# Altium schematic symbol library Tx_board.SchLib: 57 symbols (part 2 of 3)
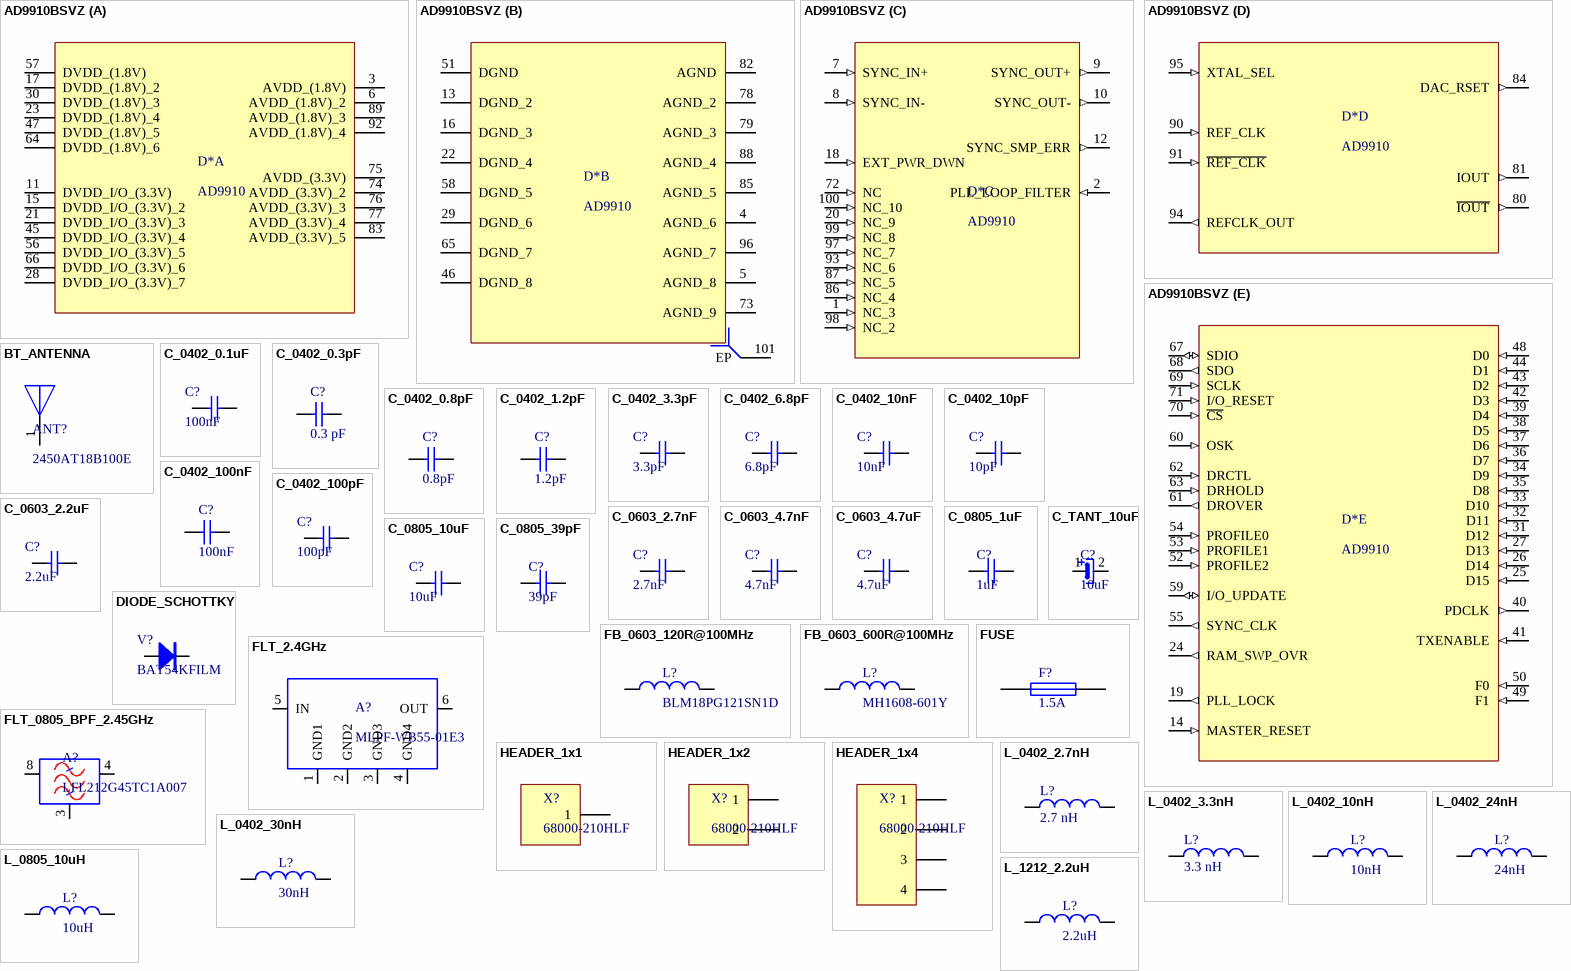
[diagram p2: symbols AD9910BSVZ to L_1212_2.2uH]

## FLT_2.4GHz
designator A?, comment MLPF-WB55-01E3
RF Filter Low Pass 2400MHz to 2500MHz 1.1dB 50Ohm SMD 6Pin T/R; Manufacturer: STMicroelectronics; Supplier 1: Digi-Key; Supplier Part Number 1: 497-19088-1-ND; Manufacturer Part Number: MLPF-WB55-01E3; RoHS: No; Stock 1: 4457; Pricing 1: 1=0.33000, 10=0.31100, 25=0.29680, 50=0.28720, 100=0.27750, 250=0.26316, 500=0.22012, 1000=0.17082 (USD); ComponentLink1URL: http://www.farnell.com/datasheets/2802556.pdf?src-supplier=Farnell; ComponentLink1Description: http://www.farnell.com/datasheets/2802556.pdf?src-supplier=Farnell
footprint CSP_BUMPLESS
pins: 1 GND1 (power), 2 GND2 (power), 3 GND3 (power), 4 GND4 (power), 5 IN, 6 OUT

## FLT_0805_BPF_2.45GHz
designator A?, comment LFL212G45TC1A007
CHIP MULTILAYER LC FILTER; Manufacturer: Murata; Bandwidth: 50MHz; Impedance: 50R; Frequency: 2.45GHz; Insertion Loss: 0.5dB; Max Frequency: 2.5GHz; Shielding: Unshielded; Supplier 1: Mouser; Supplier Part Number 1: 81-LFL212G45TC1A007; Manufacturer Part Number: LFL212G45TC1A007; RoHS: Yes; Category: EMI / RFI Components; Stock 1: 21605; Pricing 1: 1=0.30000, 10=0.16900, 100=0.15200, 250=0.12900, 500=0.12200, 1000=0.11900 (USD); Case/Package: 0805; Number of Pins: 8; Case Code (Imperial): 0805; Case Code (Metric): 2012; Min Operating Temperature: -40°C; Max Operating Temperature: 85°C; Package Quantity: 1; Packaging: Tape and Reel; Termination: SMD/SMT; Length: 2mm; Width: 1.25mm; Radiation Hardening: No; REACH SVHC: No SVHC; Lead Free: Lead Free; ComponentLink1URL: https://datasheet.ciiva.com/3068/k99e-l0270-3068711.pdf?src-supplier=Avnet; ComponentLink1Description: https://datasheet.ciiva.com/3068/k99e-l0270-3068711.pdf?src-supplier=Avnet; ComponentLink2URL: https://datasheet.ciiva.com/1129/516786-1129658.pdf?src-supplier=Farnell; ComponentLink2Description: https://datasheet.ciiva.com/1129/516786-1129658.pdf?src-supplier=Farnell; ComponentLink3URL: https://datasheet.ciiva.com/1127/516786-1127165.pdf?src-supplier=Element14; ComponentLink3Description: https://datasheet.ciiva.com/1127/516786-1127165.pdf?src-supplier=Element14; ComponentLink4URL: https://datasheet.ciiva.com/16632/k99e-l0270-16632893.pdf?src-supplier=Avnet+Europe; ComponentLink4Description: https://datasheet.ciiva.com/16632/k99e-l0270-16632893.pdf?src-supplier=Avnet+Europe; ComponentLink5URL: https://datasheet.ciiva.com/29368/k99e-l0270-29368111.pdf?src-supplier=Digi-Key; ComponentLink5Description: https://datasheet.ciiva.com/29368/k99e-l0270-29368111.pdf?src-supplier=Digi-Key
footprint GE0805C
pins: 1 GND (power) hidden, 2 NC hidden, 3 GND (power), 4 OUT, 5 GND (power) hidden, 6 NC hidden, 7 GND hidden, 8 IN

## FUSE
designator F?, comment 1.5A
PTC RESET FUSE 6V 750MA 1210; Manufacturer: Bourns; Manufacturer Part Number: MF-USMF075-2; Current Rating: 40A; Resistance: 450mR; Time to Trip: 0.1s; Power Dissipation: 600mW; Approvals: UL,CSA,TUV; Supplier 1: Digi-Key; Supplier Part Number 1: MF-USMF075-2CT-ND; RoHS: Yes; Category: PTC Resettable Fuses; Stock 1: 19397; Pricing 1: 1=0.60000, 5=0.58600, 10=0.56800, 50=0.47780, 100=0.39660, 250=0.36056, 500=0.30648, 1000=0.27042 (USD); Mount: Surface Mount; Case/Package: 1210; Case Code (Metric): 3225; Case Code (Imperial): 1210; Terminal Material: Gold; Contact Plating: Gold; Number of Terminals: 2; Min Operating Temperature: -40°C; Max Operating Temperature: 85°C; Package Quantity: 1; Packaging: Tape and Reel; Voltage Rating (DC): 6V; Operating Supply Voltage: 6V; Voltage Rating: 6V; Max Current Rating: 40A; Trip Current: 1.5A; Hold Current: 750mA; Termination: SMD/SMT; Length: 3.43mm; Height: 0.85mm; Width: 2.8mm; Radiation Hardening: No; REACH SVHC: No SVHC; Lead Free: Lead Free; ComponentLink1URL: https://datasheet.ciiva.com/326/mfusmf-326448.pdf?src-supplier=Digi-Key; ComponentLink1Description: https://datasheet.ciiva.com/326/mfusmf-326448.pdf?src-supplier=Digi-Key; ComponentLink2URL: https://datasheet.ciiva.com/326/mfusmf-326449.pdf?src-supplier=Digi-Key; ComponentLink2Description: https://datasheet.ciiva.com/326/mfusmf-326449.pdf?src-supplier=Digi-Key; ComponentLink3URL: https://datasheet.ciiva.com/28411/1719966-28411317.pdf?src-supplier=Element14; ComponentLink3Description: https://datasheet.ciiva.com/28411/1719966-28411317.pdf?src-supplier=Element14; ComponentLink4URL: https://datasheet.ciiva.com/8005/1869950-8005481.pdf?src-supplier=Element14; ComponentLink4Description: https://datasheet.ciiva.com/8005/1869950-8005481.pdf?src-supplier=Element14; ComponentLink5URL: https://datasheet.ciiva.com/3019/mfusmf-3019869.pdf?src-supplier=Avnet; ComponentLink5Description: https://datasheet.ciiva.com/3019/mfusmf-3019869.pdf?src-supplier=Avnet; ComponentLink6URL: https://datasheet.ciiva.com/17414/mfusmf-17414510.pdf?src-supplier=Avnet+Europe; ComponentLink6Description: https://datasheet.ciiva.com/17414/mfusmf-17414510.pdf?src-supplier=Avnet+Europe; ComponentLink7URL: https://datasheet.ciiva.com/14540/70153608-14540247.pdf?src-supplier=Allied+Electronics; ComponentLink7Description: https://datasheet.ciiva.com/14540/70153608-14540247.pdf?src-supplier=Allied+Electronics; ComponentLink8URL: https://datasheet.ciiva.com/31412/1719966-31412936.pdf?src-supplier=Farnell; ComponentLink8Description: https://datasheet.ciiva.com/31412/1719966-31412936.pdf?src-supplier=Farnell; ComponentLink9URL: https://datasheet.ciiva.com/3019/mfusmf-3019690.pdf?src-supplier=Avnet; ComponentLink9Description: https://datasheet.ciiva.com/3019/mfusmf-3019690.pdf?src-supplier=Avnet; ComponentLink10URL: https://datasheet.ciiva.com/16206/mfusmf-16206750.pdf?src-supplier=Onlinecomponents.com; ComponentLink10Description: https://datasheet.ciiva.com/16206/mfusmf-16206750.pdf?src-supplier=Onlinecomponents.com; ComponentLink11URL: https://datasheet.ciiva.com/22712/711771-22712238.pdf?src-supplier=Element14; ComponentLink11Description: https://datasheet.ciiva.com/22712/711771-22712238.pdf?src-supplier=Element14; ComponentLink12URL: https://datasheet.ciiva.com/326/mfusmf-326447.pdf?src-supplier=Digi-Key; ComponentLink12Description: https://datasheet.ciiva.com/326/mfusmf-326447.pdf?src-supplier=Digi-Key
footprint MF-USMF075-2
pins: 1, 2

## HEADER_1x1
designator X?, comment 68000-210HLF
footprint Header M 1x1 TH V
pins: 1

## HEADER_1x2
designator X?, comment 68000-210HLF
footprint Header M 1x2x2.54 TH V - V3
pins: 1 (power), 2 (power)

## HEADER_1x4
designator X?, comment 68000-210HLF
CONN HEADER 10POS .100 STR 15AU; Manufacturer: Amphenol FCI; Number of Positions: 10; Connector Type: Male Pin; Current Rating: 3A; Voltage Rating: 1.5kV; Gender: Male; Insulation Resistance: 5GR; Pitch: 2.54mm; Contact Post Length: 2.41mm; Supplier 1: Digi-Key; Supplier Part Number 1: 609-3258-ND; Manufacturer Part Number: 68000-210HLF; RoHS: Yes; Category: Headers and Wire Housings; Stock 1: 2156; Pricing 1: 1=0.52000, 10=0.48400, 100=0.37120, 500=0.32280, 1000=0.26631, 5000=0.23403, 10000=0.21789 (USD); Mount: Through Hole; Housing Material: Thermoplastic; Color: Black; Contact Plating: Gold,GXT; Contact Material: Bronze; Min Operating Temperature: -65°C; Max Operating Temperature: 125°C; Termination: Solder; Number of Contacts: 10; Package Quantity: 100; Number of Rows: 1; Packaging: Bulk; Contact Gender: Male; Contact Mating Length: 0.23inch; Flammability Rating: UL94 V-0; ComponentLink1URL: https://datasheet.ciiva.com/13679/68000-274237-13679374.pdf?src-supplier=Mouser; ComponentLink1Description: https://datasheet.ciiva.com/13679/68000-274237-13679374.pdf?src-supplier=Mouser; ComponentLink2URL: https://datasheet.ciiva.com/10140/68000-10140105.pdf?src-supplier=Avnet; ComponentLink2Description: https://datasheet.ciiva.com/10140/68000-10140105.pdf?src-supplier=Avnet; ComponentLink3URL: https://datasheet.ciiva.com/728/68000-728946.pdf?src-supplier=Digi-Key; ComponentLink3Description: https://datasheet.ciiva.com/728/68000-728946.pdf?src-supplier=Digi-Key
footprint Header M 1x4x2.54 TH V
pins: 1, 2, 3, 4

## L_0402_2.7nH
designator L?, comment 2.7 nH
MURATA - LQG15HS2N7S02D - INDUCTOR, 2.7NH, 0.8A, 0402, MULTILAYER; Core Material: Air; Q Factor: 8; Self Resonant Frequency: 6GHz; Current Rating: 300mA; Shielding: Unshielded; DC Resistance (DCR): 150mR; Test Frequency: 100MHz; Value: 2.7 nH; Mnf. Part Number: LQG15HS2N7S02D; ComponentLink1Description: Mouser; ComponentLink1URL: https://hr.mouser.com/ProductDetail/Murata-Electronics/LQG15HS2N7S02D?qs=%2Fha2pyFadujt2OiWqNJoxRoxw7kBv0%252ByrT6n939VFw4zHSInabTFCw%3D%3D; Supplier Part Number: 81-LQG15HS2N7S02D; Price x1: 0.09; Price x10: 0.055; Supplier 1: Digi-Key; Supplier Part Number 1: 490-2615-1-ND; Manufacturer: Murata; Manufacturer Part Number: LQG15HS2N7S02D; RoHS: Yes; Category: Fixed Inductors; Stock 1: 25639; Pricing 1: 1=0.10000, 10=0.06100, 100=0.04040, 500=0.03366, 1000=0.02827, 2500=0.02423 (USD); Mount: Surface Mount; Case/Package: 0402; Case Code (Metric): 1005; Case Code (Imperial): 0402; Min Operating Temperature: -55°C; Max Operating Temperature: 125°C; Packaging: Tape and Reel; Package Quantity: 10000; Inductance: 2.7nH; Max DC Current: 300mA; Termination: SMD/SMT; DC Current: 300mA; Military Standard: Not; Length: 1mm; Height: 0.5mm; Width: 0.5mm; Height - Seated (Max): 0.022inch; Depth: 0.55mm; Radiation Hardening: No; Lead Free: Lead Free; ComponentLink2URL: https://datasheet.ciiva.com/11801/0900766b8090d685-11801391.pdf?src-supplier=RSComponents; ComponentLink2Description: https://datasheet.ciiva.com/11801/0900766b8090d685-11801391.pdf?src-supplier=RSComponents; ComponentLink3URL: https://datasheet.ciiva.com/8510/l0075s0083lqg15hs-8510853.pdf?src-supplier=Avnet; ComponentLink3Description: https://datasheet.ciiva.com/8510/l0075s0083lqg15hs-8510853.pdf?src-supplier=Avnet; ComponentLink4URL: https://datasheet.ciiva.com/1038/l0075s0083lqg15hs-1038151.pdf?src-supplier=Digi-Key; ComponentLink4Description: https://datasheet.ciiva.com/1038/l0075s0083lqg15hs-1038151.pdf?src-supplier=Digi-Key; ComponentLink5URL: https://datasheet.ciiva.com/1038/l0075s0083lqg15hs-1038152.pdf?src-supplier=Digi-Key; ComponentLink5Description: https://datasheet.ciiva.com/1038/l0075s0083lqg15hs-1038152.pdf?src-supplier=Digi-Key; ComponentLink6URL: https://datasheet.ciiva.com/1038/l0075s0083lqg15hs-1038153.pdf?src-supplier=Digi-Key; ComponentLink6Description: https://datasheet.ciiva.com/1038/l0075s0083lqg15hs-1038153.pdf?src-supplier=Digi-Key
footprint 0402_RES
pins: 1, 2

## L_0402_3.3nH
designator L?, comment 3.3 nH
FIXED IND 3.3NH 300MA 190 MOHM; Mnf. Part Number: L-07C3N3SV6T; Manufacturer: Johanson; Core Material: Ceramic; Q Factor: 8; DC Resistance (DCR): 190mR; Self Resonant Frequency: 8.5GHz; Test Frequency: 100MHz; Shielding: Unshielded; Value: 3.3 nH; ComponentLink1Description: Mouser; ComponentLink1URL: https://hr.mouser.com/ProductDetail/Johanson-Technology/L-07C3N3SV6T?qs=%2Fha2pyFadugCBtddI3NG%252BaYXbvcOWKobQGd4VDilk%252BKBQerHSSNC3A%3D%3D; Supplier Part Number: 609-L-07C3N3SV6T; Price x1: 0.09; Price x10: 0.033; Supplier 1: Digi-Key; Supplier Part Number 1: 712-1416-1-ND; Manufacturer Part Number: L-07C3N3SV6T; RoHS: Yes; Category: Fixed Inductors; Stock 1: 355427; Pricing 1: 1=0.10000, 10=0.04700, 100=0.03110, 500=0.02588, 1000=0.02174, 2500=0.01863 (USD); Mount: Surface Mount; Case/Package: 0402; Number of Pins: 2; Case Code (Imperial): 0402; Case Code (Metric): 1005; Min Operating Temperature: -40°C; Max Operating Temperature: 100°C; Packaging: Tape and Reel; DC Current: 300mA; Military Standard: Not; Inductance: 3.3nH; Max DC Current: 300mA; Termination: SMD/SMT; Package Quantity: 1; Current Rating: 300mA; Length: 1mm; Height: 0.5mm; Width: 0.02inch; Depth: 0.6mm; Height - Seated (Max): 0.024inch; Radiation Hardening: No; REACH SVHC: No SVHC; ComponentLink2URL: https://datasheet.ciiva.com/1473/1168792-1473902.pdf?src-supplier=Element14; ComponentLink2Description: https://datasheet.ciiva.com/1473/1168792-1473902.pdf?src-supplier=Element14
footprint 0402_RES
pins: 1, 2

## L_0402_10nH
designator L?, comment 10nH
Inductor RF Chip Unshielded Multi-Layer 0.01uH 5% 100MHz 23Q-Factor 0.5A 0.19Ohm DCR 0402 Automotive T/R; Manufacturer: Murata; Manufacturer Part Number: LQG15WZ10NJ02D; Core Material: Air; Current Rating: 500mA; DC Resistance (DCR): 190mR; Self Resonant Frequency: 3.3GHz; Supplier 1: Digi-Key; Supplier Part Number 1: 490-15244-1-ND; RoHS: No; Category: Fixed Inductors; Stock 1: 10714; Pricing 1: 1=0.15000, 10=0.13500, 100=0.08970, 500=0.07476, 1000=0.06279, 2500=0.05382 (USD); Mount: Surface Mount; Case/Package: 0402; Case Code (Imperial): 0402; Case Code (Metric): 1005; Min Operating Temperature: -55°C; Max Operating Temperature: 125°C; Packaging: Cut Tape; Inductance: 10nH; Tolerance: 5%; Shielding: Unshielded; Test Frequency: 100MHz; Ratings: AEC-Q200; ComponentLink1URL: http://search.murata.co.jp/Ceramy/image/img/P02/JELF243B-9117.pdf?src-supplier=Digi-Key; ComponentLink1Description: http://search.murata.co.jp/Ceramy/image/img/P02/JELF243B-9117.pdf?src-supplier=Digi-Key
footprint 0402_RES
pins: 1, 2

## L_0402_24nH
designator L?, comment 24nH
COILCRAFT - 0402CS-24NXGLU - High Frequency Inductor, 24 nH, 0402CS Series, 400 mA, 0402 [1005 Metric], Wirewound, 0.3 ohm; Core Material: Ceramic; Current Rating: 400mA; Tolerance: 2%; Q Factor: 50; DC Resistance (DCR): 300mR; Self Resonant Frequency: 2.7GHz; Test Frequency: 250MHz; Supplier 1: Mouser; Supplier Part Number 1: 994-0402CS-24NXGLU; Manufacturer: Coilcraft; Manufacturer Part Number: 0402CS-24NXGLU; RoHS: Yes; Category: Fixed Inductors; Stock 1: 2009; Pricing 1: 1=1.78000, 10=1.56000, 50=1.26000, 100=1.16000, 200=1.10000, 500=0.69600 (USD); Case/Package: 0402; Weight: 2.3E-05oz; Case Code (Imperial): 0402; Case Code (Metric): 1005; Min Operating Temperature: -40°C; Max Operating Temperature: 125°C; Packaging: Cut Tape; Inductance Tolerance: 2%; Inductance: 24nH; Max DC Current: 400mA; Termination: SMD/SMT; Length: 1.19mm; Height: 0.66mm; Width: 0.64mm; Lead Free: Contains Lead; REACH SVHC: No SVHC; ComponentLink1URL: https://datasheet.ciiva.com/22708/1681871-22708549.pdf?src-supplier=Element14; ComponentLink1Description: https://datasheet.ciiva.com/22708/1681871-22708549.pdf?src-supplier=Element14; ComponentLink2URL: https://datasheet.ciiva.com/22621/1681871-22621870.pdf?src-supplier=Element14; ComponentLink2Description: https://datasheet.ciiva.com/22621/1681871-22621870.pdf?src-supplier=Element14
footprint 0402_RES
pins: 1, 2

## L_0402_30nH
designator L?, comment 30nH
Fixed Inductors 0402CS AEC-Q200 30 nH 2 % 0.4 A; Manufacturer: Coilcraft; Manufacturer Part Number: 0402CS-30NXGLW; Core Material: Ceramic; Tolerance: 2%; Max DC Current: 400mA; DC Resistance (DCR): 300mR; Q Factor: 39; Self Resonant Frequency: 2.35GHz; Test Frequency: 250MHz; Supplier 1: Mouser; Supplier Part Number 1: 994-0402CS-30NXGLW; RoHS: Yes; Category: Fixed Inductors; Stock 1: 2709; Pricing 1: 1=1.82000, 10=1.59000, 50=1.29000, 100=1.18000, 200=1.12000, 500=0.71000 (USD); Case/Package: 0402; Weight: 2.3E-05oz; Min Operating Temperature: -40°C; Max Operating Temperature: 125°C; Packaging: Tape and Reel; Inductance: 30nH; Termination: SMD/SMT; Length: 1.19mm; Height: 0.66mm; Width: 0.64mm; Lead Free: Contains Lead; ComponentLink1URL: http://www.mouser.com/ds/2/597/0402cs-253326.pdf?src-supplier=Mouser; ComponentLink1Description: http://www.mouser.com/ds/2/597/0402cs-253326.pdf?src-supplier=Mouser
footprint 0402_RES
pins: 1, 2

## L_0805_10uH
designator L?, comment 10uH
Inductor Power Chip Shielded Multi-Layer 10uH 20% 1MHz Ferrite 0.3A 0.845Ohm DCR 0805 Automotive T/R; Manufacturer: Murata; Manufacturer Part Number: LQM21DH100M70L; Supplier 1: Digi-Key; Supplier Part Number 1: 490-18463-1-ND; RoHS: No; Stock 1: 2742; Pricing 1: 1=0.28000, 10=0.25300, 100=0.17390, 500=0.14864, 1000=0.11385 (USD)
footprint CAP0805
pins: 1, 2

## L_1212_2.2uH
designator L?, comment 2.2uH
FIXED IND 2.2UH 2.1A 78 MOHM; Manufacturer: Murata; Manufacturer Part Number: LQH3NPN2R2MMEL; Core Material: Ferrite; Tolerance: 20%; Saturation Current: 1.8A; Shielding: Shielded; DC Resistance (DCR): 78mR; Self Resonant Frequency: 60MHz; Test Frequency: 1MHz; Supplier 1: Digi-Key; Supplier Part Number 1: 490-15950-1-ND; RoHS: No; Category: Fixed Inductors; Stock 1: 11885; Pricing 1: 1=0.38000, 10=0.33500, 100=0.23020, 500=0.19674, 1000=0.15070 (USD); Mount: Surface Mount; Case/Package: 1212; Case Code (Imperial): 1212; Case Code (Metric): 3030; Min Operating Temperature: -40°C; Max Operating Temperature: 85°C; Composition: Wirewound; Packaging: Cut Tape; Inductance: 2.2uH; Current Rating: 2.1A; ComponentLink1URL: http://search.murata.co.jp/Ceramy/image/img/P02/JELF243A-0153.pdf?src-supplier=Digi-Key; ComponentLink1Description: http://search.murata.co.jp/Ceramy/image/img/P02/JELF243A-0153.pdf?src-supplier=Digi-Key; ComponentLink2URL: https://search.murata.co.jp/Ceramy/image/img/P02/JELF243A-0153.pdf?src-supplier=Digi-Key; ComponentLink2Description: https://search.murata.co.jp/Ceramy/image/img/P02/JELF243A-0153.pdf?src-supplier=Digi-Key
footprint INDP2929X15N (Precision Wire Wound Inductor, 2-Leads, Body 2.90x2.90mm, IPC Medium Density)
pins: 1, 2

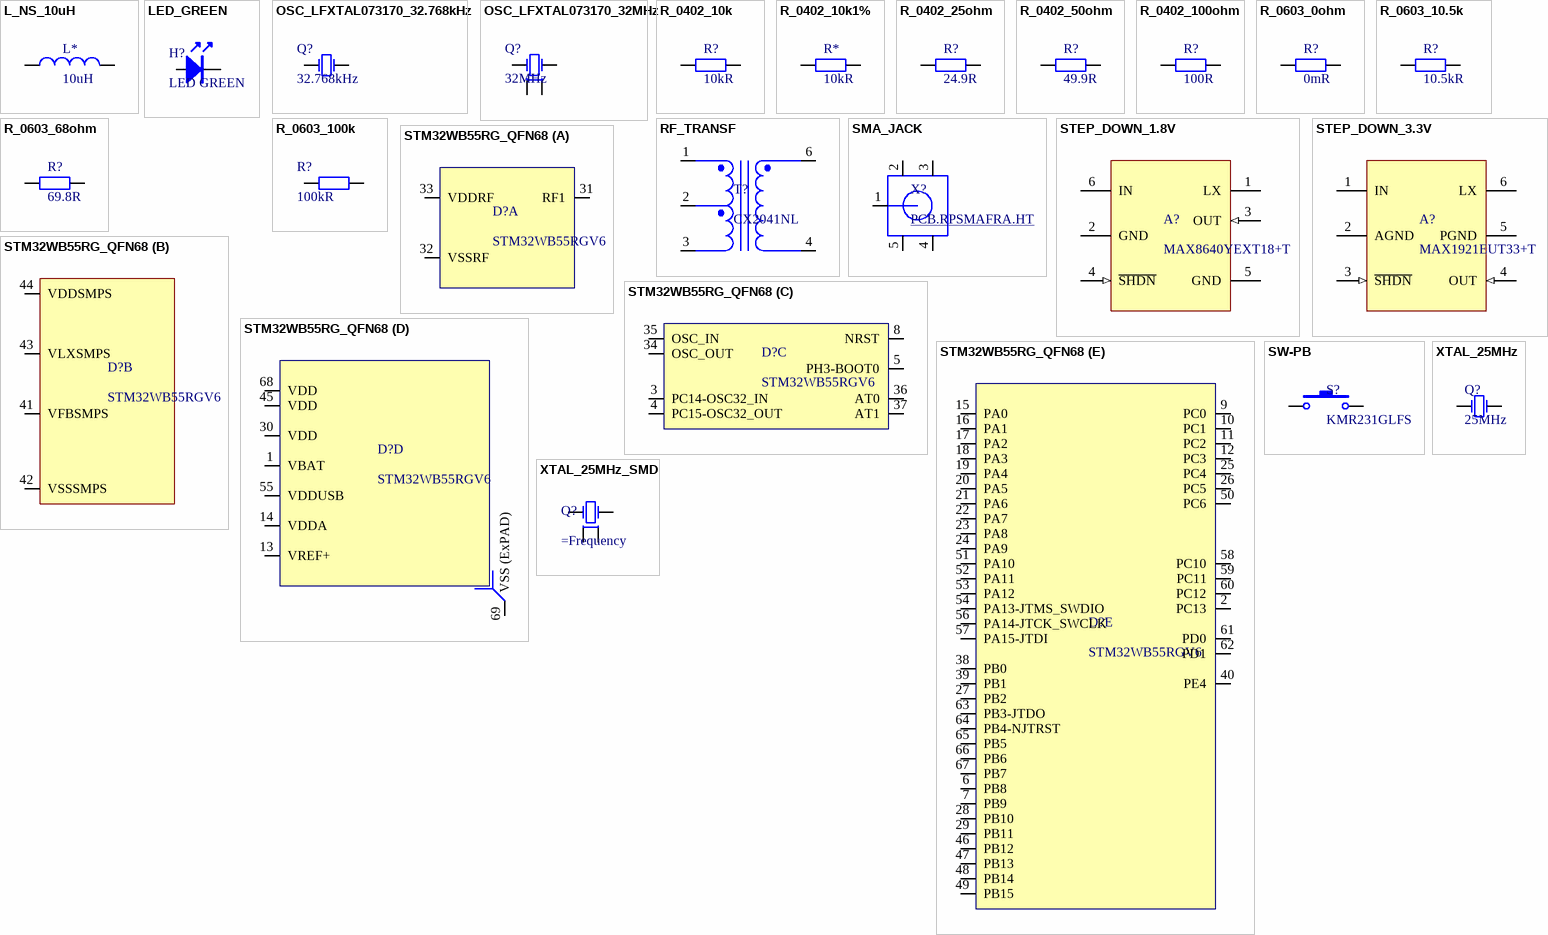
[diagram p1: symbols L_NS_10uH to XTAL_25MHz_SMD]

## L_NS_10uH
designator L*, comment 10uH
Inductor Power Shielded Drum Core 10uH 30% 100KHz Ferrite 550mA 210mOhm DCR 1515 T/R; Manufacturer: Sumida; Manufacturer Part Number: CDRH3D16NP-100NC; DC Resistance (DCR): 210mR; Supplier 1: Digi-Key; Supplier Part Number 1: 308-2298-1-ND; RoHS: Yes; Category: Fixed Inductors; Stock 1: 2000; Pricing 1: 1=1.29000, 10=1.19600, 100=0.86480, 500=0.66240 (USD); Mount: Surface Mount; Case/Package: Nonstandard; Core Material: Ferrite; Min Operating Temperature: -40°C; Max Operating Temperature: 100°C; Inductance: 10uH; Max DC Current: 550mA; Termination: SMD/SMT; Test Frequency: 100kHz; DC Current: 550mA; Military Standard: Not; Packaging: Tape and Reel; Tolerance: 30%; Shielding: Shielded; Package Quantity: 1000; Current Rating: 550mA; Length: 4mm; Height: 1.8mm; Height - Seated (Max): 0.071inch; Depth: 4mm; Width: 4mm; Radiation Hardening: No; Lead Free: Lead Free; ComponentLink1URL: https://datasheet.ciiva.com/1009/lf2020-1009625.pdf?src-supplier=Avnet; ComponentLink1Description: https://datasheet.ciiva.com/1009/lf2020-1009625.pdf?src-supplier=Avnet; ComponentLink2URL: https://datasheet.ciiva.com/18168/getdatasheetpartid-357365-18168789.pdf?src-supplier=Verical; ComponentLink2Description: https://datasheet.ciiva.com/18168/getdatasheetpartid-357365-18168789.pdf?src-supplier=Verical; ComponentLink3URL: https://datasheet.ciiva.com/26793/cdrh3d16np-100nc-26793474.pdf?src-supplier=IIIC; ComponentLink3Description: https://datasheet.ciiva.com/26793/cdrh3d16np-100nc-26793474.pdf?src-supplier=IIIC; ComponentLink4URL: https://datasheet.ciiva.com/29696/cdrh3d16-29696264.pdf?src-supplier=Digi-Key; ComponentLink4Description: https://datasheet.ciiva.com/29696/cdrh3d16-29696264.pdf?src-supplier=Digi-Key; ComponentLink5URL: https://datasheet.ciiva.com/29696/cdrh3d16-29696265.pdf?src-supplier=Digi-Key; ComponentLink5Description: https://datasheet.ciiva.com/29696/cdrh3d16-29696265.pdf?src-supplier=Digi-Key; ComponentLink6URL: https://datasheet.ciiva.com/29696/cdrh3d16-29696266.pdf?src-supplier=Digi-Key; ComponentLink6Description: https://datasheet.ciiva.com/29696/cdrh3d16-29696266.pdf?src-supplier=Digi-Key
footprint IND_10uH (CDRH3D16)
pins: 1, 2

## LED_GREEN
designator H?, comment LED GREEN
WURTH ELEKTRONIK - 150060VS75000 - LED, Green, SMD, 0603, 30 mA, 2 V, 570 nm; Manufacturer: Wurth Electronics; Luminous Intensity: 40mcd; Viewing Angle: 140°; Forward Voltage: 2V; Wavelength: 570nm; Lens Style: Clear,Rectangular; Forward Current: 30mA; Test Current: 20mA; Supplier 1: Digi-Key; Supplier Part Number 1: 732-4980-6-ND; Manufacturer Part Number: 150060VS75000; RoHS: Yes; Category: LEDs; Stock 1: 62969; Pricing 1: 1=0.14000, 50=0.13300, 100=0.11400, 500=0.09900 (USD); Mount: Surface Mount; Case/Package: 0603; Number of Pins: 2; Color: Green; Case Code (Metric): 1608; Case Code (Imperial): 0603; Min Operating Temperature: -40°C; Max Operating Temperature: 85°C; Package Quantity: 1; Packaging: Tape and Reel; Dominant Wavelength: 570nm; Length: 1.6mm; Height: 0.7mm; Width: 0.8mm; REACH SVHC: Unknown; ComponentLink1URL: https://datasheet.ciiva.com/29562/150060vs75000-29562919.pdf?src-supplier=Digi-Key; ComponentLink1Description: https://datasheet.ciiva.com/29562/150060vs75000-29562919.pdf?src-supplier=Digi-Key
footprint 0603_LED_GREEN
pins: A, K

## OSC_LFXTAL073170_32.768kHz
designator Q?, comment 32.768kHz
NDK 32.76kHz Crystal Unit ±20ppm SMD 2-Pin 2.05 x 1.2 x 0.55mm; Manufacturer Part Number: NX2012SA-32.768K-STD-MUB-1; Load Capacitance: 12.5pF; ESR (Equivalent Series Resistance): 80kR; Supplier 1: Digi-Key; Supplier Part Number 1: 644-1219-1-ND; Manufacturer: NDK; RoHS: Yes; Category: Crystals; Stock 1: 43560; Pricing 1: 1=0.91000, 10=0.80500, 50=0.75200, 100=0.66460, 500=0.62964, 1000=0.52470 (USD); Mount: Surface Mount; Case/Package: SMD/SMT; Min Operating Temperature: -40°C; Max Operating Temperature: 85°C; Packaging: Tape and Reel; Frequency: 32.768kHz; Frequency Tolerance: 20ppm; Length: 0.081inch; Height: 0.024inch; Width: 0.047inch; ComponentLink1URL: http://www.ndk.com/images/products/catalog/c_NX2012SA-STD-MUB-1_e.pdf?src-supplier=Digi-Key; ComponentLink1Description: http://www.ndk.com/images/products/catalog/c_NX2012SA-STD-MUB-1_e.pdf?src-supplier=Digi-Key
footprint NX2012_2P
pins: 1 OSC1, 2 OSC2

## OSC_LFXTAL073170_32MHz
designator Q?, comment 32MHz
Crystal 32.0MHZ 10PF SMD Esr 60; Manufacturer: IQD Frequency Products; Manufacturer Part Number: LFXTAL073170REEL; Supplier 1: Digi-Key; Stock 1: 1202; Pricing 1: 1=0.69000, 10=0.60700, 50=0.56760, 100=0.50160, 500=0.47520 (USD); Supplier Part Number 1: 1923-1603-1-ND
footprint NX2016_4P
pins: 1 OSC1, 2, 3 OSC2, 4

## R_0402_10k
designator R?, comment 10kR
RES SMD 10K OHM 1% 1/10W 0402; Manufacturer: Panasonic; Manufacturer Part Number: ERJ-2RKF1002X; Power Rating: 100mW; Voltage Rating: 50V; Temperature Coefficient: 100ppm/°C; Supplier 1: Digi-Key; Supplier Part Number 1: P10.0KLCT-ND; RoHS: Yes; Category: Chip SMD Resistors; Stock 1: 768578; Pricing 1: 1=0.10000, 10=0.04100, 100=0.01680, 1000=0.00753, 2500=0.00653, 5000=0.00540 (USD); Mount: Surface Mount; Case/Package: 0402; Number of Pins: 2; Case Code (Metric): 1005; Case Code (Imperial): 0402; Contact Plating: Tin; Min Operating Temperature: -55°C; Max Operating Temperature: 155°C; Resistance: 10kR; Tolerance: 1%; Packaging: Tape and Reel; Package Quantity: 1; Composition: Thick Film; Number of Terminations: 2; Termination: SMD/SMT; Military Standard: Not; Max Power Dissipation: 100mW; Voltage Rating (DC): 50V; Features: Automotive AEC-Q200; Length: 1mm; Height: 0.35mm; Width: 0.02inch; Depth: 0.5mm; Radiation Hardening: No; REACH SVHC: No SVHC; Lead Free: Lead Free; ComponentLink1URL: https://datasheet.ciiva.com/11821/0900766b80f80784-11821171.pdf?src-supplier=RSComponents; ComponentLink1Description: https://datasheet.ciiva.com/11821/0900766b80f80784-11821171.pdf?src-supplier=RSComponents; ComponentLink2URL: https://datasheet.ciiva.com/16199/aoa0000ce2-16199478.pdf?src-supplier=Future+Electronics; ComponentLink2Description: https://datasheet.ciiva.com/16199/aoa0000ce2-16199478.pdf?src-supplier=Future+Electronics; ComponentLink3URL: https://datasheet.ciiva.com/17212/aoa0000ce2-17212102.pdf?src-supplier=Avnet+Europe; ComponentLink3Description: https://datasheet.ciiva.com/17212/aoa0000ce2-17212102.pdf?src-supplier=Avnet+Europe; ComponentLink4URL: https://datasheet.ciiva.com/24023/aoa0000ce2-24023017.pdf?src-supplier=Mouser; ComponentLink4Description: https://datasheet.ciiva.com/24023/aoa0000ce2-24023017.pdf?src-supplier=Mouser; ComponentLink5URL: https://datasheet.ciiva.com/28514/1678782-28514185.pdf?src-supplier=Element14; ComponentLink5Description: https://datasheet.ciiva.com/28514/1678782-28514185.pdf?src-supplier=Element14; ComponentLink6URL: https://datasheet.ciiva.com/43467/1678782-43467402.pdf?src-supplier=Farnell; ComponentLink6Description: https://datasheet.ciiva.com/43467/1678782-43467402.pdf?src-supplier=Farnell; ComponentLink7URL: https://datasheet.ciiva.com/27055/1987020-27055643.pdf?src-supplier=Jameco; ComponentLink7Description: https://datasheet.ciiva.com/27055/1987020-27055643.pdf?src-supplier=Jameco; ComponentLink8URL: https://datasheet.ciiva.com/48531/aoa0000ce2-48531069.pdf?src-supplier=Avnet; ComponentLink8Description: https://datasheet.ciiva.com/48531/aoa0000ce2-48531069.pdf?src-supplier=Avnet
footprint 0402_RES
pins: 1, 2

## R_0402_10k1%
designator R*, comment 10kR
Res Thick Film 0402 10K Ohm 1% 1/16W ±100ppm/°C Molded SMD Paper T/R; Manufacturer: Vishay; Manufacturer Part Number: CRCW0402-10K0FKED; Power Rating: 63mW; Voltage Rating: 50V; Supplier 1: Digi-Key; Supplier Part Number 1: 541-10.0KLTR-ND; RoHS: Yes; Category: Chip SMD Resistors; Stock 1: 520976; Pricing 1: 10000=0.003710 (USD); Mount: Surface Mount; Case/Package: 0402; Number of Pins: 2; Weight: 2.3E-05oz; Contact Plating: Tin; Case Code (Metric): 1005; Case Code (Imperial): 0402; Min Operating Temperature: -55°C; Max Operating Temperature: 155°C; Tolerance: 1%; Resistance: 10kR; Composition: Thick Film; Temperature Coefficient: 100ppm/°C; Termination: SMD/SMT; Package Quantity: 10; Packaging: Tape and Reel; Number of Terminations: 2; Military Standard: Not; Max Power Dissipation: 63mW; Voltage Rating (DC): 50V; Features: Automotive AEC-Q200; Length: 1mm; Height: 0.35mm; Width: 0.02inch; Depth: 0.5mm; Radiation Hardening: No; Lead Free: Lead Free; REACH SVHC: Unknown; ComponentLink1URL: https://datasheet.ciiva.com/11809/0900766b80d98824-11809984.pdf?src-supplier=RSComponents; ComponentLink1Description: https://datasheet.ciiva.com/11809/0900766b80d98824-11809984.pdf?src-supplier=RSComponents; ComponentLink2URL: https://datasheet.ciiva.com/2463/dcrcwe3-2463025.pdf?src-supplier=Digi-Key; ComponentLink2Description: https://datasheet.ciiva.com/2463/dcrcwe3-2463025.pdf?src-supplier=Digi-Key; ComponentLink3URL: https://datasheet.ciiva.com/2463/dcrcwe3-2463026.pdf?src-supplier=Digi-Key; ComponentLink3Description: https://datasheet.ciiva.com/2463/dcrcwe3-2463026.pdf?src-supplier=Digi-Key; ComponentLink4URL: https://datasheet.ciiva.com/2463/dcrcwe3-2463027.pdf?src-supplier=Digi-Key; ComponentLink4Description: https://datasheet.ciiva.com/2463/dcrcwe3-2463027.pdf?src-supplier=Digi-Key; ComponentLink5URL: https://datasheet.ciiva.com/46385/1697337-46385560.pdf?src-supplier=Element14; ComponentLink5Description: https://datasheet.ciiva.com/46385/1697337-46385560.pdf?src-supplier=Element14; ComponentLink6URL: https://datasheet.ciiva.com/3255/dcrcwe3-3255961.pdf?src-supplier=Avnet; ComponentLink6Description: https://datasheet.ciiva.com/3255/dcrcwe3-3255961.pdf?src-supplier=Avnet; ComponentLink7URL: https://datasheet.ciiva.com/3255/dcrcwe3-3255962.pdf?src-supplier=Avnet; ComponentLink7Description: https://datasheet.ciiva.com/3255/dcrcwe3-3255962.pdf?src-supplier=Avnet; ComponentLink8URL: https://datasheet.ciiva.com/5547/dcrcwe3-109170-5547786.pdf?src-supplier=Mouser; ComponentLink8Description: https://datasheet.ciiva.com/5547/dcrcwe3-109170-5547786.pdf?src-supplier=Mouser; ComponentLink9URL: https://datasheet.ciiva.com/26316/fld-crcw-e3-data-en-26316618.pdf?src-supplier=Distrelec; ComponentLink9Description: https://datasheet.ciiva.com/26316/fld-crcw-e3-data-en-26316618.pdf?src-supplier=Distrelec; ComponentLink10URL: https://datasheet.ciiva.com/16208/dcrcwe3-16208525.pdf?src-supplier=Future+Electronics; ComponentLink10Description: https://datasheet.ciiva.com/16208/dcrcwe3-16208525.pdf?src-supplier=Future+Electronics; ComponentLink11URL: https://datasheet.ciiva.com/36856/1720486-36856909.pdf?src-supplier=Element14; ComponentLink11Description: https://datasheet.ciiva.com/36856/1720486-36856909.pdf?src-supplier=Element14
footprint 0402_RES
pins: 1, 2

## R_0402_25ohm
designator R?, comment 24.9R
Res Thick Film 0402 24.9 Ohm 1% 1/10W 100ppm/C Molded SMD SMD Punched Carrier T/R; Manufacturer: Panasonic; Manufacturer Part Number: ERJ-2RKF24R9X; Voltage Rating: 50V; Power Rating: 100mW; Temperature Coefficient: 100ppm/°C; Supplier 1: Digi-Key; Supplier Part Number 1: P24.9LCT-ND; RoHS: Yes; Category: Chip SMD Resistors; Stock 1: 673851; Pricing 1: 1=0.10000, 10=0.03700, 100=0.01510, 1000=0.00678, 2500=0.00589, 5000=0.00486 (USD); Mount: Surface Mount; Case/Package: 0402; Case Code (Imperial): 0402; Case Code (Metric): 1005; Contact Plating: Tin; Min Operating Temperature: -55°C; Max Operating Temperature: 155°C; Tolerance: 1%; Resistance: 24.9R; Packaging: Tape and Reel; Package Quantity: 1; Termination: SMD/SMT; Composition: Thick Film; Number of Terminations: 2; Military Standard: Not; Max Power Dissipation: 100mW; Voltage Rating (DC): 50V; Working Voltage: 50V; Features: Automotive AEC-Q200; Length: 1mm; Height: 0.35mm; Width: 0.5mm; Depth: 0.5mm; REACH SVHC: No SVHC; Lead Free: Lead Free; ComponentLink1URL: https://datasheet.ciiva.com/30153/aoa0000ce2-30153413.pdf?src-supplier=Onlinecomponents.com; ComponentLink1Description: https://datasheet.ciiva.com/30153/aoa0000ce2-30153413.pdf?src-supplier=Onlinecomponents.com; ComponentLink2URL: https://datasheet.ciiva.com/24023/aoa0000ce2-24023254.pdf?src-supplier=Mouser; ComponentLink2Description: https://datasheet.ciiva.com/24023/aoa0000ce2-24023254.pdf?src-supplier=Mouser; ComponentLink3URL: https://datasheet.ciiva.com/46388/426256-46388760.pdf?src-supplier=Element14; ComponentLink3Description: https://datasheet.ciiva.com/46388/426256-46388760.pdf?src-supplier=Element14; ComponentLink4URL: https://datasheet.ciiva.com/16779/70260748-16779610.pdf?src-supplier=Allied+Electronics; ComponentLink4Description: https://datasheet.ciiva.com/16779/70260748-16779610.pdf?src-supplier=Allied+Electronics; ComponentLink5URL: https://datasheet.ciiva.com/16765/70260748-16765963.pdf?src-supplier=Allied+Electronics; ComponentLink5Description: https://datasheet.ciiva.com/16765/70260748-16765963.pdf?src-supplier=Allied+Electronics; ComponentLink6URL: https://datasheet.ciiva.com/43460/426256-43460270.pdf?src-supplier=Farnell; ComponentLink6Description: https://datasheet.ciiva.com/43460/426256-43460270.pdf?src-supplier=Farnell; ComponentLink7URL: https://datasheet.ciiva.com/9191/aoa0000ce2-9191455.pdf?src-supplier=Avnet; ComponentLink7Description: https://datasheet.ciiva.com/9191/aoa0000ce2-9191455.pdf?src-supplier=Avnet
pins: 1, 2

## R_0402_50ohm
designator R?, comment 49.9R
Res Thick Film 0402 49.9 Ohm 1% 1/10W ±100ppm/°C Molded SMD Punched Carrier T/R; Manufacturer: Panasonic; Manufacturer Part Number: ERJ2RKF49R9X; Power Rating: 100mW; Voltage Rating: 50V; Supplier 1: Digi-Key; Supplier Part Number 1: P49.9LCT-ND; RoHS: Yes; Category: Chip SMD Resistors; Stock 1: 5079010; Pricing 1: 1=0.10000, 10=0.04900, 100=0.02010, 1000=0.00901, 2500=0.00782, 5000=0.00646 (USD); Mount: Surface Mount; Case/Package: 0402; Case Code (Metric): 1005; Case Code (Imperial): 0402; Contact Plating: Tin; Min Operating Temperature: -55°C; Max Operating Temperature: 155°C; Resistance: 49.9R; Tolerance: 1%; Packaging: Tape and Reel; Package Quantity: 1; Composition: Thick Film; Number of Terminations: 2; Termination: SMD/SMT; Temperature Coefficient: 100ppm/°C; Military Standard: Not; Max Power Dissipation: 100mW; Voltage Rating (DC): 50V; Working Voltage: 50V; Features: Automotive AEC-Q200; Length: 1mm; Height: 0.35mm; Width: 0.02inch; Depth: 0.5mm; Radiation Hardening: No; REACH SVHC: Unknown; Lead Free: Lead Free; ComponentLink1URL: https://datasheet.ciiva.com/34303/2007329-34303761.pdf?src-supplier=Jameco; ComponentLink1Description: https://datasheet.ciiva.com/34303/2007329-34303761.pdf?src-supplier=Jameco; ComponentLink2URL: https://datasheet.ciiva.com/16514/aoa0000ce2-16514389.pdf?src-supplier=Avnet+Asia; ComponentLink2Description: https://datasheet.ciiva.com/16514/aoa0000ce2-16514389.pdf?src-supplier=Avnet+Asia; ComponentLink3URL: https://datasheet.ciiva.com/30073/aoa0000ce2-30073413.pdf?src-supplier=Onlinecomponents.com; ComponentLink3Description: https://datasheet.ciiva.com/30073/aoa0000ce2-30073413.pdf?src-supplier=Onlinecomponents.com; ComponentLink4URL: https://datasheet.ciiva.com/6159/1678782-6159607.pdf?src-supplier=Farnell; ComponentLink4Description: https://datasheet.ciiva.com/6159/1678782-6159607.pdf?src-supplier=Farnell; ComponentLink5URL: https://datasheet.ciiva.com/22749/1678782-22749612.pdf?src-supplier=Element14; ComponentLink5Description: https://datasheet.ciiva.com/22749/1678782-22749612.pdf?src-supplier=Element14; ComponentLink6URL: https://datasheet.ciiva.com/24071/aoa0000ce2-24071517.pdf?src-supplier=Mouser; ComponentLink6Description: https://datasheet.ciiva.com/24071/aoa0000ce2-24071517.pdf?src-supplier=Mouser
footprint 0402_RES
pins: 1, 2

## R_0402_100ohm
designator R?, comment 100R
RES, THICK FILM, 100R, 100mW, 1%, 0402; Manufacturer: Panasonic; Manufacturer Part Number: ERJ-2RKF1000X; Temperature Coefficient: 100ppm/°C; Voltage Rating: 50V; Supplier 1: Mouser; Supplier Part Number 1: 667-ERJ-2RKF1000X; RoHS: Yes; Category: Chip SMD Resistors; Stock 1: 1219318; Pricing 1: 1=0.10000, 10=0.03700, 100=0.01400, 1000=0.00700, 2500=0.00500, 10000=0.00400 (USD); Mount: Surface Mount; Case/Package: 0402; Number of Pins: 2; Contact Plating: Tin; Case Code (Imperial): 0402; Case Code (Metric): 1005; Min Operating Temperature: -55°C; Max Operating Temperature: 155°C; Resistance: 100R; Tolerance: 1%; Composition: Thick Film; Packaging: Tape and Reel; Power Rating: 100mW; Package Quantity: 1; Termination: SMD/SMT; Number of Terminations: 2; Military Standard: Not; Max Power Dissipation: 100mW; Voltage Rating (DC): 50V; Features: Automotive AEC-Q200; Length: 1mm; Height: 0.35mm; Width: 0.5mm; Depth: 0.5mm; Radiation Hardening: No; REACH SVHC: No SVHC; Lead Free: Lead Free; ComponentLink1URL: https://datasheet.ciiva.com/27056/2007311-27056035.pdf?src-supplier=Jameco; ComponentLink1Description: https://datasheet.ciiva.com/27056/2007311-27056035.pdf?src-supplier=Jameco; ComponentLink2URL: https://datasheet.ciiva.com/11821/0900766b80f80784-11821173.pdf?src-supplier=RSComponents; ComponentLink2Description: https://datasheet.ciiva.com/11821/0900766b80f80784-11821173.pdf?src-supplier=RSComponents; ComponentLink3URL: https://datasheet.ciiva.com/46372/1678782-46372741.pdf?src-supplier=Element14; ComponentLink3Description: https://datasheet.ciiva.com/46372/1678782-46372741.pdf?src-supplier=Element14; ComponentLink4URL: https://datasheet.ciiva.com/16199/aoa0000ce2-16199575.pdf?src-supplier=Future+Electronics; ComponentLink4Description: https://datasheet.ciiva.com/16199/aoa0000ce2-16199575.pdf?src-supplier=Future+Electronics; ComponentLink5URL: https://datasheet.ciiva.com/43467/1678782-43467223.pdf?src-supplier=Farnell; ComponentLink5Description: https://datasheet.ciiva.com/43467/1678782-43467223.pdf?src-supplier=Farnell; ComponentLink6URL: https://datasheet.ciiva.com/30260/aoa0000ce2-30260809.pdf?src-supplier=Onlinecomponents.com; ComponentLink6Description: https://datasheet.ciiva.com/30260/aoa0000ce2-30260809.pdf?src-supplier=Onlinecomponents.com; ComponentLink7URL: https://datasheet.ciiva.com/9186/aoa0000ce2-9186683.pdf?src-supplier=Avnet; ComponentLink7Description: https://datasheet.ciiva.com/9186/aoa0000ce2-9186683.pdf?src-supplier=Avnet; ComponentLink8URL: https://datasheet.ciiva.com/16776/70260748-16776427.pdf?src-supplier=Allied+Electronics; ComponentLink8Description: https://datasheet.ciiva.com/16776/70260748-16776427.pdf?src-supplier=Allied+Electronics; ComponentLink9URL: https://datasheet.ciiva.com/48531/aoa0000ce2-48531067.pdf?src-supplier=Avnet; ComponentLink9Description: https://datasheet.ciiva.com/48531/aoa0000ce2-48531067.pdf?src-supplier=Avnet; ComponentLink10URL: https://datasheet.ciiva.com/17207/aoa0000ce2-17207980.pdf?src-supplier=Avnet+Europe; ComponentLink10Description: https://datasheet.ciiva.com/17207/aoa0000ce2-17207980.pdf?src-supplier=Avnet+Europe; ComponentLink11URL: https://datasheet.ciiva.com/7830/426256-7830973.pdf?src-supplier=Element14; ComponentLink11Description: https://datasheet.ciiva.com/7830/426256-7830973.pdf?src-supplier=Element14; ComponentLink12URL: https://datasheet.ciiva.com/16522/aoa0000ce2-16522621.pdf?src-supplier=Avnet+Asia; ComponentLink12Description: https://datasheet.ciiva.com/16522/aoa0000ce2-16522621.pdf?src-supplier=Avnet+Asia; ComponentLink13URL: https://datasheet.ciiva.com/28514/1678782-28514175.pdf?src-supplier=Element14; ComponentLink13Description: https://datasheet.ciiva.com/28514/1678782-28514175.pdf?src-supplier=Element14
footprint 0402_RES
pins: 1, 2

## R_0603_0ohm
designator R?, comment 0mR
Res Thick Film 0603 0 Ohm Jumper Molded SMD Punched Carrier T/R; Manufacturer: Panasonic; Manufacturer Part Number: ERJ-3GEY0R00V; Power Rating: 100mW; Voltage Rating: 75V; Tolerance: 0%; Temperature Coefficient: 600ppm/°C; Voltage Rating (DC): 50V; Supplier 1: Digi-Key; Supplier Part Number 1: P0.0GDKR-ND; RoHS: Yes; Category: Chip SMD Resistors; Stock 1: 13282495; Pricing 1: 1=0.10000, 10=0.03900, 25=0.02840, 50=0.02160, 100=0.01600, 250=0.01220, 500=0.00976, 1000=0.00718 (USD); Mount: Surface Mount; Case/Package: 0603; Contact Plating: Tin; Case Code (Metric): 1608; Case Code (Imperial): 0603; Min Operating Temperature: -55°C; Max Operating Temperature: 155°C; Resistance: 0mR; Composition: Thick Film; Packaging: Tape and Reel; Package Quantity: 1; Number of Terminations: 2; Termination: SMD/SMT; Military Standard: Not; Max Power Dissipation: 100mW; Features: Automotive AEC-Q200; Length: 1.6mm; Height: 0.45mm; Width: 0.031inch; Depth: 0.8mm; Radiation Hardening: No; REACH SVHC: No SVHC; Lead Free: Lead Free; ComponentLink1URL: https://datasheet.ciiva.com/27055/1935748-27055113.pdf?src-supplier=Jameco; ComponentLink1Description: https://datasheet.ciiva.com/27055/1935748-27055113.pdf?src-supplier=Jameco; ComponentLink2URL: https://datasheet.ciiva.com/11808/0900766b80f806dd-11808207.pdf?src-supplier=RSComponents; ComponentLink2Description: https://datasheet.ciiva.com/11808/0900766b80f806dd-11808207.pdf?src-supplier=RSComponents; ComponentLink3URL: https://datasheet.ciiva.com/48532/aoa0000ce1-48532165.pdf?src-supplier=Avnet; ComponentLink3Description: https://datasheet.ciiva.com/48532/aoa0000ce1-48532165.pdf?src-supplier=Avnet; ComponentLink4URL: https://datasheet.ciiva.com/43460/1678796-43460647.pdf?src-supplier=Farnell; ComponentLink4Description: https://datasheet.ciiva.com/43460/1678796-43460647.pdf?src-supplier=Farnell; ComponentLink5URL: https://datasheet.ciiva.com/28695/1678796-28695833.pdf?src-supplier=Element14; ComponentLink5Description: https://datasheet.ciiva.com/28695/1678796-28695833.pdf?src-supplier=Element14; ComponentLink6URL: https://datasheet.ciiva.com/5959/1678796-5959707.pdf?src-supplier=Farnell; ComponentLink6Description: https://datasheet.ciiva.com/5959/1678796-5959707.pdf?src-supplier=Farnell; ComponentLink7URL: https://datasheet.ciiva.com/16834/aoa0000ce1-16834828.pdf?src-supplier=Future+Electronics; ComponentLink7Description: https://datasheet.ciiva.com/16834/aoa0000ce1-16834828.pdf?src-supplier=Future+Electronics; ComponentLink8URL: https://datasheet.ciiva.com/17215/aoa0000ce1-17215388.pdf?src-supplier=Avnet+Europe; ComponentLink8Description: https://datasheet.ciiva.com/17215/aoa0000ce1-17215388.pdf?src-supplier=Avnet+Europe; ComponentLink9URL: https://datasheet.ciiva.com/46377/1678796-46377868.pdf?src-supplier=Element14; ComponentLink9Description: https://datasheet.ciiva.com/46377/1678796-46377868.pdf?src-supplier=Element14; ComponentLink10URL: https://datasheet.ciiva.com/30199/4aoa0000ce1-30199822.pdf?src-supplier=Onlinecomponents.com; ComponentLink10Description: https://datasheet.ciiva.com/30199/4aoa0000ce1-30199822.pdf?src-supplier=Onlinecomponents.com; ComponentLink11URL: https://datasheet.ciiva.com/9198/aoa0000ce1-9198975.pdf?src-supplier=Avnet; ComponentLink11Description: https://datasheet.ciiva.com/9198/aoa0000ce1-9198975.pdf?src-supplier=Avnet; ComponentLink12URL: https://datasheet.ciiva.com/16758/70255313-16758527.pdf?src-supplier=Allied+Electronics; ComponentLink12Description: https://datasheet.ciiva.com/16758/70255313-16758527.pdf?src-supplier=Allied+Electronics
footprint RESC0603 (Chip Resistor, 2-Leads, Body 1.60x0.80mm, IPC Medium Density)
pins: 1, 2

## R_0603_10.5k
designator R?, comment 10.5kR
High Precision-High Stability Chip Resistor Thin Film 0603 10.5kOhm 0.5% Paper T/R; Manufacturer: Yageo; Manufacturer Part Number: RT0603DRE0710K5L; Max Power Dissipation: 100mW; Temperature Coefficient: 50ppm/°C; Voltage Rating (DC): 50V; Supplier 1: Digi-Key; Supplier Part Number 1: 311-2399-1-ND; RoHS: Yes; Category: Chip SMD Resistors; Stock 1: 24754; Pricing 1: 1=0.12000, 10=0.10700, 100=0.04100, 1000=0.01804, 2500=0.01558 (USD); Case/Package: 0603; Case Code (Metric): 1608; Case Code (Imperial): 0603; Min Operating Temperature: -55°C; Max Operating Temperature: 155°C; Package Quantity: 5000; Packaging: Tape and Reel; Resistance: 10.5kR; Tolerance: 0.5%; Composition: Thin Film; Number of Terminations: 2; Features: Moisture Resistant; Length: 0.063inch; Height: 0.022inch; Width: 0.031inch; Lead Free: Lead Free; ComponentLink1URL: https://datasheet.ciiva.com/2565/pyu-rt-1-to-0-05-rohs-l-5-2565937.pdf?src-supplier=Digi-Key; ComponentLink1Description: https://datasheet.ciiva.com/2565/pyu-rt-1-to-0-05-rohs-l-5-2565937.pdf?src-supplier=Digi-Key
footprint RESC0603 (Chip Resistor, 2-Leads, Body 1.60x0.80mm, IPC Medium Density)
pins: 1, 2

## R_0603_68ohm
designator R?, comment 69.8R
RES, THICK FILM, 69R8, 100MW, 1%, REEL; Manufacturer: Panasonic; Manufacturer Part Number: ERJ-3EKF69R8V; Voltage Rating: 75V; Temperature Coefficient: 100ppm/°C; Supplier 1: Digi-Key; Supplier Part Number 1: P69.8HCT-ND; RoHS: Yes; Category: Chip SMD Resistors; Stock 1: 89898; Pricing 1: 1=0.10000, 10=0.03500, 100=0.01430, 1000=0.00641, 2500=0.00557 (USD); Mount: Surface Mount; Case/Package: 0603; Case Code (Imperial): 0603; Case Code (Metric): 1608; Contact Plating: Tin; Min Operating Temperature: -55°C; Max Operating Temperature: 155°C; Resistance: 69.8R; Tolerance: 1%; Power Rating: 100mW; Packaging: Tape and Reel; Package Quantity: 1; Composition: Thick Film; Number of Terminations: 2; Military Standard: Not; Max Power Dissipation: 100mW; Voltage Rating (DC): 75V; Features: Automotive AEC-Q200; Length: 1.6mm; Height: 0.022inch; Width: 0.8mm; Depth: 0.8mm; Radiation Hardening: No; REACH SVHC: Yes; Lead Free: Lead Free; ComponentLink1URL: https://datasheet.ciiva.com/24027/aoa0000ce2-24027510.pdf?src-supplier=Mouser; ComponentLink1Description: https://datasheet.ciiva.com/24027/aoa0000ce2-24027510.pdf?src-supplier=Mouser; ComponentLink2URL: https://datasheet.ciiva.com/22739/1678782-22739672.pdf?src-supplier=Element14; ComponentLink2Description: https://datasheet.ciiva.com/22739/1678782-22739672.pdf?src-supplier=Element14; ComponentLink3URL: https://datasheet.ciiva.com/30237/aoa0000ce2-30237417.pdf?src-supplier=Onlinecomponents.com; ComponentLink3Description: https://datasheet.ciiva.com/30237/aoa0000ce2-30237417.pdf?src-supplier=Onlinecomponents.com; ComponentLink4URL: https://datasheet.ciiva.com/22668/1678782-22668431.pdf?src-supplier=Element14; ComponentLink4Description: https://datasheet.ciiva.com/22668/1678782-22668431.pdf?src-supplier=Element14
footprint RESC0603 (Chip Resistor, 2-Leads, Body 1.60x0.80mm, IPC Medium Density)
pins: 1, 2

## R_0603_100k
designator R?, comment 100kR
Res Thin Film 0603 100K Ohm 0.5% 0.063W(1/16W) ±25ppm/C Pad SMD Automotive T/R; Manufacturer: Susumu; Manufacturer Part Number: RR0816P-104-D; Power Rating: 63mW; Voltage Rating: 75V; Temperature Coefficient: 25ppm/°C; Supplier 1: Digi-Key; Supplier Part Number 1: RR08P100KDCT-ND; RoHS: Yes; Category: Chip SMD Resistors; Stock 1: 326481; Pricing 1: 1=0.10000, 10=0.09300, 100=0.03580, 1000=0.01575, 2500=0.01360 (USD); Case/Package: 0603; Number of Pins: 2; Case Code (Imperial): 0603; Case Code (Metric): 1608; Min Operating Temperature: -55°C; Max Operating Temperature: 125°C; Tolerance: 0.5%; Packaging: Tape and Reel; Resistance: 100kR; Package Quantity: 1; Termination: SMD/SMT; Composition: Thin Film; Number of Terminations: 2; Max Power Dissipation: 63mW; Voltage Rating (DC): 75V; Working Voltage: 75V; Length: 1.6mm; Height: 0.4mm; Width: 0.8mm; Depth: 0.8mm; REACH SVHC: Unknown; Lead Free: Lead Free; ComponentLink1URL: https://datasheet.ciiva.com/11820/0900766b80808d64-11820638.pdf?src-supplier=RSComponents; ComponentLink1Description: https://datasheet.ciiva.com/11820/0900766b80808d64-11820638.pdf?src-supplier=RSComponents; ComponentLink2URL: https://datasheet.ciiva.com/7984/87330-7984341.pdf?src-supplier=Element14; ComponentLink2Description: https://datasheet.ciiva.com/7984/87330-7984341.pdf?src-supplier=Element14; ComponentLink3URL: https://datasheet.ciiva.com/2487/rr-data-sheet-2487067.pdf?src-supplier=Digi-Key; ComponentLink3Description: https://datasheet.ciiva.com/2487/rr-data-sheet-2487067.pdf?src-supplier=Digi-Key; ComponentLink4URL: https://datasheet.ciiva.com/2487/rr-data-sheet-2487068.pdf?src-supplier=Digi-Key; ComponentLink4Description: https://datasheet.ciiva.com/2487/rr-data-sheet-2487068.pdf?src-supplier=Digi-Key; ComponentLink5URL: https://datasheet.ciiva.com/2487/rr-data-sheet-2487069.pdf?src-supplier=Digi-Key; ComponentLink5Description: https://datasheet.ciiva.com/2487/rr-data-sheet-2487069.pdf?src-supplier=Digi-Key
footprint RESC0603 (Chip Resistor, 2-Leads, Body 1.60x0.80mm, IPC Medium Density)
pins: 1, 2

## RF_TRANSF
designator T?, comment CX2041NL
RF Transformer 1:1CT 0.5MHz to 1500MHz Surface Mount; Manufacturer: Pulse; Turns Ratio: 1:1; Frequency: 1.5GHz; Supplier 1: Digi-Key; Supplier Part Number 1: 553-3187-ND; Manufacturer Part Number: CX2041NL; RoHS: Yes; Category: Uncategorized; Stock 1: 1966; Pricing 1: 1=2.70000, 10=2.16000, 25=1.75520, 50=1.71000, 100=1.66500, 250=1.62000, 500=1.60650, 1000=1.42200, 5000=1.30500 (USD); Mount: Surface Mount; Case/Package: SMD/SMT; Min Operating Temperature: -40°C; Max Operating Temperature: 85°C; Packaging: Tray; ComponentLink1URL: https://datasheet.ciiva.com/26944/getdatasheetpartid-790077-26944021.pdf?src-supplier=Verical; ComponentLink1Description: https://datasheet.ciiva.com/26944/getdatasheetpartid-790077-26944021.pdf?src-supplier=Verical
footprint RF_TRANSF
pins: 1, 2, 3, 4, 6

## SMA_JACK
designator X?, comment PCB.RPSMAFRA.HT
CONN RP-SMA JACK R/A 50 OHM PCB; Manufacturer: Taoglas; Dielectric Material: PTFE; Body Material: Brass; Body Plating: Gold; Connector Type: SMA,Male Pin; Max Frequency: 6GHz; Voltage Rating: 500V; Impedance: 50R; Supplier 1: Digi-Key; Supplier Part Number 1: 931-1360-ND; Manufacturer Part Number: PCB.RPSMAFRA.HT; RoHS: Yes; Category: RF / Coaxial Connectors; Stock 1: 1777; Pricing 1: 1=3.10000, 100=2.84000, 500=2.58000, 1000=2.28760 (USD); Mount: Through Hole,Surface Mount; Case/Package: SMA; Contact Plating: Gold; Housing Color: Gold; Contact Material: Brass; Package Quantity: 500; Packaging: Tray; Termination: Solder; Fastening Type: Threaded; Frequency: 6GHz; Orientation: Right Angle; ComponentLink1URL: http://www.taoglas.com/wp-content/uploads/2016/01/PCB.RPSMAFRA.HT_.pdf?src-supplier=Digi-Key; ComponentLink1Description: http://www.taoglas.com/wp-content/uploads/2016/01/PCB.RPSMAFRA.HT_.pdf?src-supplier=Digi-Key; ComponentLink2URL: http://taoglas.com/images/product_images/original_images/PCB.RPSMAFRA.HT.pdf?src-supplier=Avnet; ComponentLink2Description: http://taoglas.com/images/product_images/original_images/PCB.RPSMAFRA.HT.pdf?src-supplier=Avnet
footprint SMA
pins: 1 OUT, 2 GND, 3 GND, 4 GND, 5 GND

## STEP_DOWN_1.8V
designator A?, comment MAX8640YEXT18+T
IC REG BCK SYNC 1.8V 0.5A SC70-6; Manufacturer: Maxim; Number of Outputs: 1; Max Output Current: 500mA; Min Input Voltage: 2.7V; Max Input Voltage: 5.5V; Switching Frequency: 2MHz; Synchronous Rectifier: Yes; Output Type: Fixed; Output Configuration: Positive; Supplier 1: Digi-Key; Supplier Part Number 1: MAX8640YEXT18+TCT-ND; Manufacturer Part Number: MAX8640YEXT18+T; RoHS: Yes; Category: Voltage Regulators - Switching; Stock 1: 4719; Pricing 1: 1=4.66000, 10=4.18900, 25=3.96000, 100=3.25600, 250=2.92160, 500=2.81600, 1000=2.34080 (USD); Mount: Surface Mount; Number of Pins: 6; Min Operating Temperature: -40°C; Max Operating Temperature: 85°C; Packaging: Tape and Reel; Output Voltage: 1.8V; Package Quantity: 2500; Output Current: 500mA; Min Output Voltage: 1.8V; Operating Supply Voltage: 5.5V; Radiation Hardening: No; Lead Free: Lead Free; ComponentLink1URL: https://datasheet.ciiva.com/26899/max8640yext18-t-26899818.pdf?src-supplier=IIIC; ComponentLink1Description: https://datasheet.ciiva.com/26899/max8640yext18-t-26899818.pdf?src-supplier=IIIC; ComponentLink2URL: https://datasheet.ciiva.com/2037/max8640y-max8640z-2037222.pdf?src-supplier=Digi-Key; ComponentLink2Description: https://datasheet.ciiva.com/2037/max8640y-max8640z-2037222.pdf?src-supplier=Digi-Key
footprint SC70P20X21 (SC70, 6-Leads, Body 2.00x2.17mm, Pitch 0.65mm, IPC Medium Density)
pins: 1 LX, 2 GND (power), 3 OUT (in), 4 ~{SHDN} (in), 5 GND (power), 6 IN (power)